# EAGLE library part TXB0104 (library ICs)
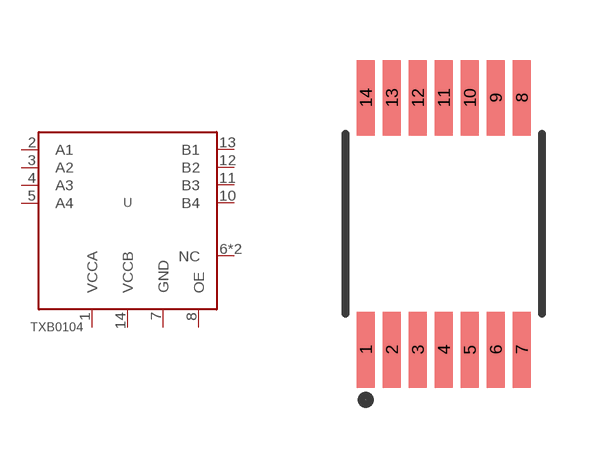
[diagram p43: symbol with the pads of TSSOP14; footprint TSSOP14]

Designator prefix U

## TXB0104 (MFG: Texas Instruments; PN: TXB0104PW; VALUE: TXB0104)  [TSSOP14]
1  VCCA
2  A1
3  A2
4  A3
5  A4
6  NC
7  GND
8  OE
9  NC
10  B4
11  B3
12  B2
13  B1
14  VCCB

## Footprint TSSOP14 (pad centres in mm)
14-Lead Plastic Thin Shrink Small Outline (ST) - 4.4 mm Body TSSOP
smd 0.45 x 1.9: 1 -1.95,-3.15; 2 -1.3,-3.15; 3 -0.65,-3.15; 4 0,-3.15; 5 0.65,-3.15; 6 1.3,-3.15; 7 1.95,-3.15; 8 1.95,3.15; 9 1.3,3.15; 10 0.65,3.15; 11 0,3.15; 12 -0.65,3.15; 13 -1.3,3.15; 14 -1.95,3.15